# Altium schematic symbol library OptoComponents.SCHLIB: 8 symbols
Pins are listed as number, name and electrical type; pins without a type are passive.

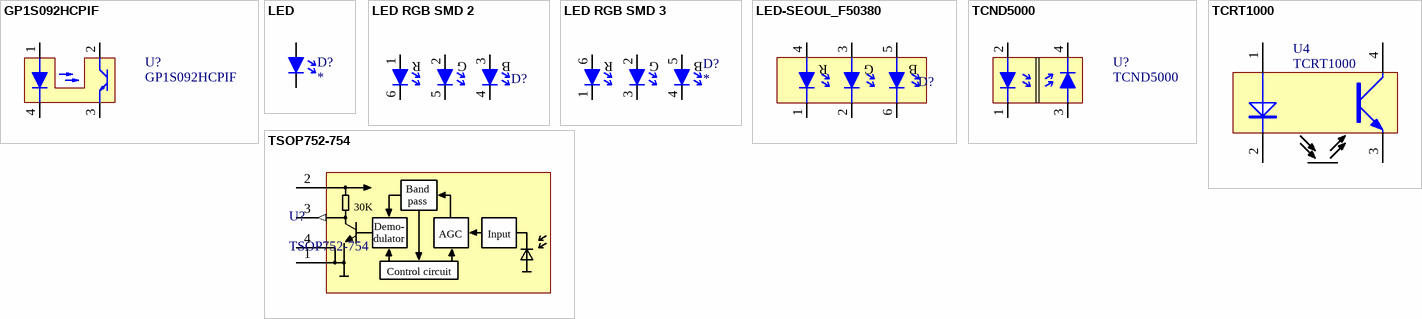
[diagram p0: symbols GP1S092HCPIF to TSOP752-754]

## GP1S092HCPIF
designator U?
Sharp GP1S092HCPIF sensor
pins: 1 Ce, 2 Ae, 3 Ad, 4 Cd

## LED
designator D?
LED; VerifiedComment: ToDo
pins: 1 K, 2 A

## LED RGB SMD 2
designator D?, comment HBMGFRT825  (value not drawn)
LED RGB SMD 2; VerifiedComment: ToDo; =Value: HBMGFRT825
footprint LEDSMD2 (LED SMD, 6-Leads, Body 2.8x3.5mm (max), Pitch 1.00mm, IPC High Density)
pins: 1 Ar, 2 Ag, 3 Ab, 4 Kb, 5 Kg, 6 Kr
text: R; G; B

## LED RGB SMD 3
designator D?
LED RGB SMD 3; VerifiedComment: ToDo
footprint LEDSMD3 (LED SMD, 6-Leads, Body 3.5x3.6mm (max), Pitch 1.05mm, IPC High Density)
pins: 1 Ar, 2 Ag, 3 Ab, 4 Kb, 5 Kg, 6 Kr
text: R; G; B

## LED-SEOUL_F50380
designator D?
RGB LED F50380; VerifiedComment: Ok; VerifiedBy: DBR; VerifiedDate: 20071009
pins: 1 Cr "Cathode of Red led", 2 Cg "Cathode of Green led", 3 Ag "Anode of Green led", 4 Ar "Anode of Red led", 5 Ab "Anode of Blue led", 6 Cb "Cathode of Blue led"
text: R; G; B

## TCND5000
designator U?
Vishay TCND5000 sensor
footprint VISHAY_TCND5000 (Reflective Optical Sensor with PIN Photodiode Output)
pins: 1 Ce, 2 Ae, 3 Ad, 4 Cd

## TCRT1000
designator U4
Vishay TCRT1000 sensor; ClassName: ir_left_l
footprint VISHAY-TCRT1000-S (Short version : 7mm instead 16.5)
footprint TCRT1000_SMD_90 (Footprint not found)
footprint TCRT1000_SMD
footprint VISHAY-TCRT1000-ALL (all versions)
pins: 1 A, 2 C, 3 E, 4 C

## TSOP752-754
designator U?
pins: 1 GND (power), 2 VS (power), 3 OUT (out), 4 GND (power)
text: 30K; Band / pass; AGC; Input; Demo- / dulator; Control circuit